# EAGLE library part 418317270905 (library Switches_rev16a)
EIWS-PT 2.54 mm piano type compact THT Dip Switch with raised actuator, 5 Pole
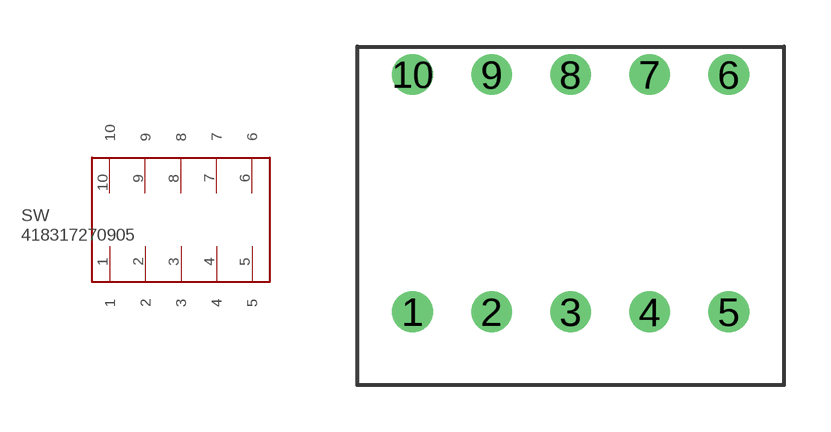
[diagram p77: symbol with the pads of 418317270905; footprint 418317270905]

Designator prefix SW

## 418317270905  [418317270905]
1  1
2  2
3  3
4  4
5  5
6  6
7  7
8  8
9  9
10  10

## Footprint 418317270905 (pad centres in mm)
EIWS-PT 2.54 mm piano type compact THT Dip Switch with raised actuator, 5 Pole
drill 0.8: 1 -5.08,-3.81; 2 -2.54,-3.81; 3 0,-3.81; 4 2.54,-3.81; 5 5.08,-3.81; 6 5.08,3.81; 7 2.54,3.81; 8 0,3.81; 9 -2.54,3.81; 10 -5.08,3.81